# Altium schematic symbol library SCH - LDO - LP2985A-50.SCHLIB: 1 symbol
Pins are listed as number, name and electrical type; pins without a type are passive.

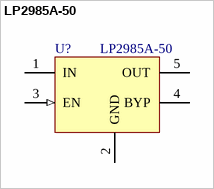
[diagram p0: symbol LP2985A-50]

## LP2985A-50
designator U?
150mA, LDO, Vout = 5V, Vin,max = 16V; MPN: LP2985A-25; MF: Texas Instruments; Supplier 1: Mouser; Supplier Part Number 1: 595-LP2985A-25DBVR; Package: SOT-23-5; ComponentLink1Description: Manufacturer; ComponentLink1URL: https://www.ti.com/; ComponentLink2Description: Datasheet; ComponentLink2URL: https://www.ti.com/lit/ds/symlink/lp2985a.pdf
pins: 1 IN (power), 2 GND (power), 3 EN (in), 4 BYP, 5 OUT (power)